# Altium footprint library FCC_Connector.PcbLib: 1 footprints
Each footprint in its own frame and in the unit in brackets; x right, y up, seen from the top. Pads: shape width x height; smd on the part's side, far side on the other; paste and mask are expansions set on the pad; w line width, h text height; cw(c..) or ccw(c..) is an arc to the next point about the centre after c.
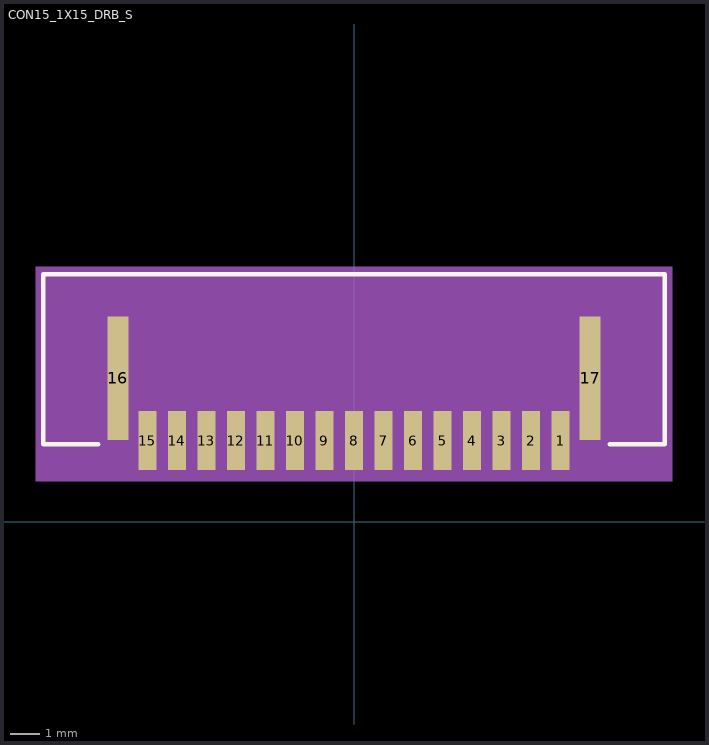
[diagram p0: the footprint, top view; thin cyan lines are the x and y axes]

## CON15_1X15_DRB_S [mil]
pads (17):
  rect 24x79 smd: 1(275.59,108.5) 2(236.22,108.5) 3(196.85,108.5) 4(157.48,108.5) 5(118.11,108.5) 6(78.74,108.5) 7(39.37,108.5) 8(0,108.5) 9(-39.37,108.5) 10(-78.74,108.5) 11(-118.11,108.5) 12(-157.48,108.5) 13(-196.85,108.5) 14(-236.22,108.5) 15(-275.59,108.5)
  rect 28x165 smd: 16(-315,191.5) 17(315,191.5)
Top Overlay:
  lines w6: -340.89,103.5 -414.5,103.5 -414.5,330.5 414.5,330.5 414.5,103.5 340.89,103.5
Mechanical 5:
  region: -424.5,340.5 424.5,340.5 424.5,54 -424.5,54
Mechanical 13:
  lines w1: 250.59,108.5 275.59,58.5 300.59,108.5 ; -409.5,108.5 -409.5,325.5 409.5,325.5 409.5,108.5 -409.5,108.5
Mechanical 15:
  region: -419.5,335.5 -419.5,59 419.5,59 419.5,335.5
  lines w6: -419.5,59 -419.5,335.5 419.5,335.5 419.5,59 -419.5,59
3D body: height 10, standoff 0, extent 0,0 10,10